# Altium schematic symbol library Lipo_battery.SchLib: 1 symbol
Pins are listed as number, name and electrical type; pins without a type are passive.

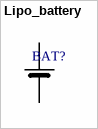
[diagram p0: symbol Lipo_battery]

## Lipo_battery
designator BAT?, comment Lipo battery  (value not drawn)
footprint PCBComponent_1
pins: 1, 2